# Altium schematic symbol library TIL-6V.Schlib: 1 symbol
Pins are listed as number, name and electrical type; pins without a type are passive.

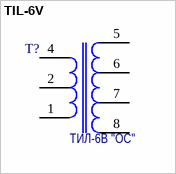
[diagram p0: symbol TIL-6V]

## TIL-6V
designator T?  Наименование: ТИЛ-6В "ОС"  (hidden comment: TIL-6V)
Импульсный трансформатор; Назначение: Импульсный трансформатор МПИ; Потребление, Вт: 0.0
footprint TIL-6V
pins: 1, 2, 4, 5, 6, 7, 8